# Altium footprint library CAPPRD750W75D1600H4000V - 0 - 0.PcbLib: 1 footprints
Each footprint in its own frame and in the unit in brackets; x right, y up, seen from the top. Pads: shape width x height; smd on the part's side, far side on the other; paste and mask are expansions set on the pad; w line width, h text height; cw(c..) or ccw(c..) is an arc to the next point about the centre after c.
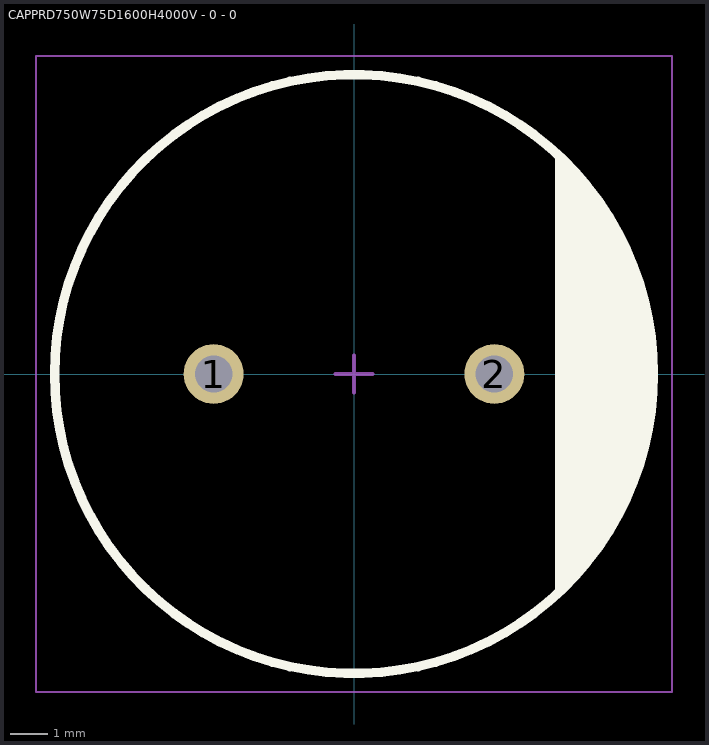
[diagram p0: the footprint, top view; thin cyan lines are the x and y axes]

## CAPPRD750W75D1600H4000V - 0 - 0 [mm] "CAP ALUM RADIAL DIA 16MM HEIGHT 40MM PITCH 7.5MM"
height 40
pads (2):
  round 1.6 hole 1: 1(-3.75,0) 2(3.75,0)
Top Overlay:
  circle w0.254: c0,0 r8
  region: 5.5,5.75 5.5,-5.75 7,-4 8,-1 8,0.5 7.5,2.5 7,4
  lines w0.254: 5.5,-5.75 5.5,5.75
Board:
  lines w0.05: -8.5,-8.5 8.5,-8.5 8.5,8.5 -8.5,8.5 -8.5,-8.5
  lines w0.1: -0.5,0 0.5,0 ; 0,-0.5 0,0.5
3D body: height 40, standoff 0, extent -8,-8.003 8,7.997